# Altium footprint library Interconnects.PcbLib: 26 footprints (part 1 of 2)
Each footprint in its own frame and in the unit in brackets; x right, y up, seen from the top. Pads: shape width x height; smd on the part's side, far side on the other; paste and mask are expansions set on the pad; w line width, h text height; cw(c..) or ccw(c..) is an arc to the next point about the centre after c.
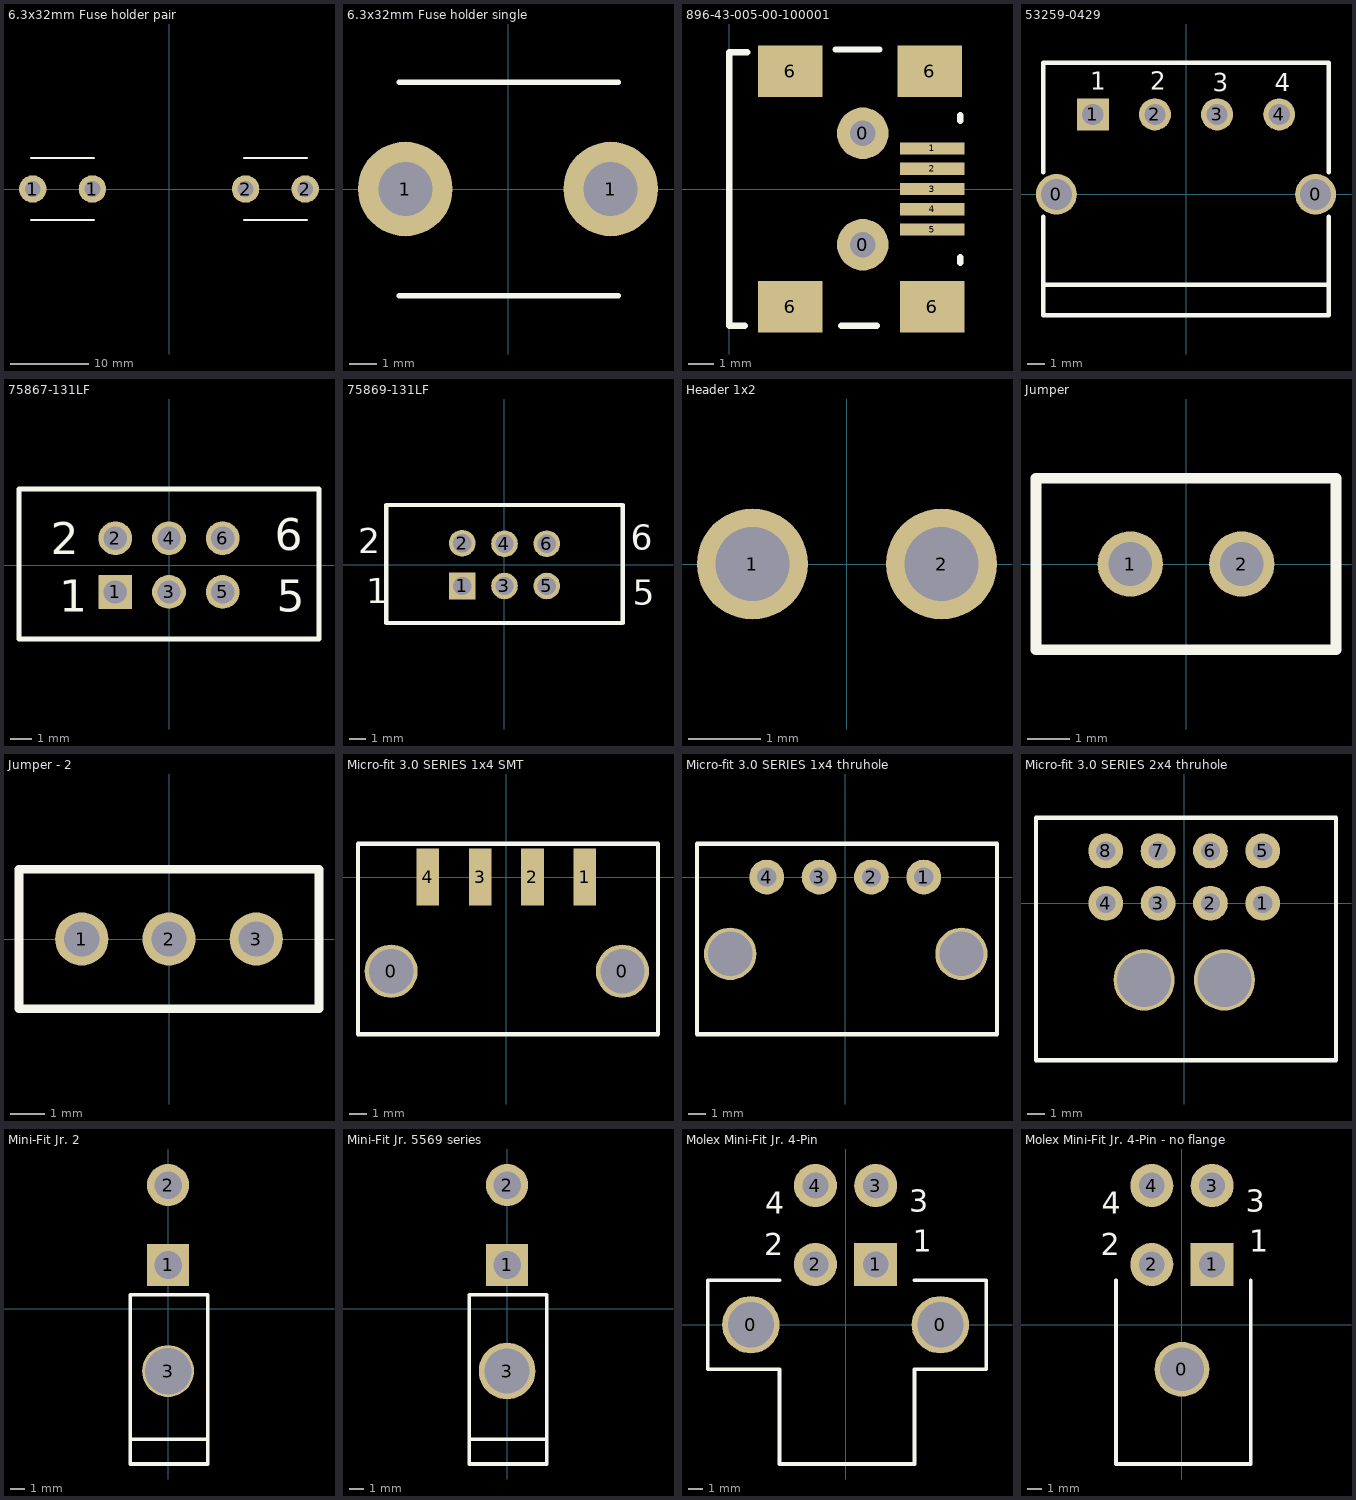
[diagram p0: the footprints below, top view; thin cyan lines are the x and y axes]

## 6.3x32mm Fuse holder pair [mm] "6.3x32mm Fuse holder complete set for 1 fuse"
height 10.9
pads (4):
  round 3.5 hole 2 mask+0.064: 1(-17.35,0) 1(-9.75,0) 2(9.75,0) 2(17.35,0)
Top Overlay:
  lines w0.2: -17.625,-3.95 -9.525,-3.95 ; -17.625,3.95 -9.525,3.95 ; 9.5,-3.95 17.6,-3.95 ; 9.5,3.95 17.6,3.95
3D body: height 10.93, standoff -3.07, extent -17.625,-3.95 -9.525,3.95
3D body: height 10.93, standoff -3.07, extent 9.5,-3.95 17.6,3.95

## 6.3x32mm Fuse holder single [mm] "6.3x32mm Fuse holder single, needs another to hold 1 fuse"
height 10.9
pads (2):
  round 3.5 hole 2 mask+0.064: 1(-3.8,0) 1(3.8,0)
Top Overlay:
  lines w0.2: -4.025,-3.95 4.075,-3.95 ; -4.025,3.95 4.075,3.95
3D body: height 10.93, standoff -3.07, extent -4.025,-3.95 4.075,3.95

## 896-43-005-00-100001 [mil] "CONN RECEPT MINI-USB TYPE A SMT"
pads (11):
  round 80 hole 40 unplated: 0(207,-86.5) 0(207,86.5)
  rect 100x19 smd: 1(314.96,62.99) 2(314.96,31.5) 3(314.96,0) 4(314.96,-31.5) 5(314.96,-62.99)
  rect 100x80 smd: 6(94.49,182.87) 6(94.49,-182.87) 6(311.02,182.87) 6(314.96,-182.87)
Top Overlay:
  lines w10: 23.62,-212.6 0,-212.6 0,212.6 27.56,212.6 ; 165.35,216.54 232.28,216.54 ; 173.23,-212.6 228.35,-212.6 ; 358.27,-114.17 358.27,-106.3 ; 358.27,106.3 358.27,114.17

## 53259-0429 [mm] "3.50mm Pitch Header, Right Angle, 4 Circuits"
height 7.9
pads (6):
  round 2.3 hole 1.75: 0(-7.3,0) 0(7.3,0)
  rect 1.8x1.8 hole 1.2: 1(-5.25,4.5)
  round 1.8 hole 1.2: 2(-1.75,4.5) 3(1.75,4.5) 4(5.25,4.5)
Top Overlay:
  lines w0.254: -8.05,-5.1 8.05,-5.1 ; -8.05,-1.25 -8.05,-6.8 8.05,-6.8 8.05,-1.25 ; -8.05,1.25 -8.05,7.4 8.05,7.4 8.05,1.25
  text "1" at -5.4,5.9 h1
  text "2" at -2,5.9 h1
  text "3" at 1.5,5.8 h1
  text "4" at 5,5.8 h1
3D body: height 8.6, standoff -3.45, extent -8.03,-6.78 8.07,7.42

## 75867-131LF [mm] "CONN HEADER 6POS DUAL R/A PCB"
pads (6):
  rect 1.6x1.6 hole 1.1: 1(-2.54,-1.27)
  round 1.6 hole 1.1: 2(-2.54,1.27) 3(0,-1.27) 4(0,1.27) 5(2.54,-1.27) 6(2.54,1.27)
Top Overlay:
  lines w0.254: -7.1,-3.5 -7.1,3.6 7.1,3.6 7.1,-3.5 -7.1,-3.5
  text "2" at -5.6,0.5 h1.52
  text "6" at 5,0.7 h1.52
  text "1" at -5.2,-2.2 h1.52
  text "5" at 5.1,-2.2 h1.52
3D body: height 9.3, standoff -3.04, extent -7.415,-1.6 7.415,12.37

## 75869-131LF [mm] "CONN HEADER 6POS DUAL VERT PCB"
pads (6):
  rect 1.6x1.6 hole 1.1: 1(-2.54,-1.27)
  round 1.6 hole 1.1: 2(-2.54,1.3) 3(0,-1.27) 4(0,1.27) 5(2.54,-1.27) 6(2.54,1.27)
Top Overlay:
  lines w0.254: -7.1,-3.5 7.1,-3.5 7.1,3.6 -7.1,3.6 -7.1,-3.5
  text "5" at 7.7,-2.4 h1.52
  text "1" at -8.3,-2.3 h1.52
  text "6" at 7.6,0.9 h1.52
  text "2" at -8.8,0.7 h1.52
3D body: height 9.39, standoff -2.98, extent -7.415,-4.4 7.415,4.87

## Header 1x2 [mil] "0.1in pitch"
pads (2):
  round 60 hole 40: 1(-51.18,0) 2(51.18,0)

## Jumper [mil] "0.1in pitch"
pads (2):
  round 60 hole 40: 1(-51.18,0) 2(51.18,0)
Top Overlay:
  lines w10: -137.8,-78.74 -137.8,62.99 -137.8,78.74 137.8,78.74 137.8,-78.74 -137.8,-78.74

## Jumper - 2 [mil] "0.1in pitch, double throw"
pads (3):
  round 60 hole 40: 1(-98.43,0) 2(0,0) 3(98.43,0)
Top Overlay:
  lines w10: -169.29,-78.74 -169.29,31.5 -169.29,78.74 169.29,78.74 169.29,-78.74 -169.29,-78.74

## Micro-fit 3.0 SERIES 1x4 SMT [mm] "Right angle"
height 5.57
pads (6):
  round 3.048 hole 2.54 unplated: 0(-6.6,-5.4) 0(6.66,-5.4)
  rect 1.3x3.25 smd mask+0.064: 1(4.5,0)
  rect 1.3x3.25 smd: 2(1.5,0) 3(-1.5,0) 4(-4.5,0)
Top Overlay:
  lines w0.254: -8.5,-9 -8.5,1.9 8.7,1.9 8.7,-9 -8.5,-9
3D body: height 5.68, standoff -1.91, extent -7.725,-10.1 7.925,0.8

## Micro-fit 3.0 SERIES 1x4 thruhole [mm] "Right angle"
height 5.57
pads (6):
  round 2 hole 1.1: 1(4.5,0) 2(1.5,0) 3(-1.5,0) 4(-4.5,0)
  round 3 hole 2.54 unplated: ""(-6.6,-4.4) ""(6.66,-4.4)
Top Overlay:
  lines w0.254: -8.5,-9 8.7,-9 8.7,1.9 -8.5,1.9 -8.5,-9
3D body: height 5.55, standoff -3.2, extent -7.825,-8.9 7.825,1

## Micro-fit 3.0 SERIES 2x4 thruhole [mm] "Right angle"
height 5.57
pads (10):
  round 2 hole 1.1: 1(4.5,0) 2(1.5,0) 3(-1.5,0) 4(-4.5,0) 5(4.5,3) 6(1.5,3) 7(-1.5,3) 8(-4.5,3)
  round 3.5 hole 3.1 unplated: ""(-2.3,-4.4) ""(2.3,-4.4)
Top Overlay:
  lines w0.254: -8.5,4.8 -8.5,-9 8.7,-9 8.7,4.9 -8.5,4.9
3D body: height 8.9, standoff -3.05, extent -8.075,-8.9 8.075,3.34

## Mini-Fit Jr. 2 [mm]
pads (3):
  rect 2.9x2.9 hole 1.9: 1(0,3)
  round 2.9 hole 1.9: 2(0,8.5)
  round 3.578 hole 3.2: 3(0,-4.3)
Top Overlay:
  lines w0.254: -2.6,-9 2.625,-9 ; -2.6,0.95 -2.6,-10.7 2.7,-10.7 ; -2.575,0.95 2.725,0.95 2.725,-10.7
3D body: height 11.4, standoff -3.6, extent -2.7,-10.9 3.1,9.035

## Mini-Fit Jr. 5569 series [mm]
pads (3):
  rect 2.9x2.9 hole 1.9: 1(0,3)
  round 2.9 hole 1.9: 2(0,8.5)
  round 3.9 hole 3.1: 3(0,-4.3)
Top Overlay:
  lines w0.254: -2.6,-9 2.625,-9 ; -2.6,0.95 -2.6,-10.7 2.7,-10.7 ; -2.575,0.95 2.725,0.95 2.725,-10.7
3D body: height 11.4, standoff -3.6, extent -2.7,-10.9 3.1,9.035

## Molex Mini-Fit Jr. 4-Pin [mm] "4-Pin Moles Mini-Fit Jr. Right Angle Header with PCB Flange"
pads (6):
  round 4 hole 3.2: 0(-6.6,0) 0(6.6,0)
  rect 3x3 hole 1.8: 1(2.1,4.2)
  round 3 hole 1.8: 2(-2.1,4.2) 3(2.1,9.7) 4(-2.1,9.7)
Top Overlay:
  lines w0.254: -4.6,3.1 -9.6,3.1 -9.6,-3.1 -4.6,-3.1 -4.6,-9.7 4.8,-9.7 4.8,-3.1 9.8,-3.1 9.8,3.1 4.8,3.1
  text "2" at -5.652,4.826 h1.52
  text "3" at 4.436,7.874 h1.52
  text "4" at -5.598,7.747 h1.52
  text "1" at 4.69,5.08 h1.52
3D body: height 11.4, standoff -3.5, extent -9.8,-9.7 9.8,10.2

## Molex Mini-Fit Jr. 4-Pin - no flange [mm] "4-Pin Moles Mini-Fit Jr. Right Angle Header"
pads (5):
  round 3.81 hole 3.048: 0(0,-3.099)
  rect 3x3 hole 1.8: 1(2.1,4.2)
  round 3 hole 1.8: 2(-2.1,4.2) 3(2.1,9.7) 4(-2.1,9.7)
Top Overlay:
  lines w0.254: -4.6,3.1 -4.6,-3.1 -4.6,-9.7 4.8,-9.7 4.8,-3.1 4.8,3.1
  text "1" at 4.69,5.08 h1.52
  text "4" at -5.598,7.747 h1.52
  text "3" at 4.436,7.874 h1.52
  text "2" at -5.652,4.826 h1.52
3D body: height 11.4, standoff -3.6, extent -4.8,-9.567 5.2,10.368